# Altium schematic symbol library LDK320ADU120R.Schlib: 1 symbol
Pins are listed as number, name and electrical type; pins without a type are passive.

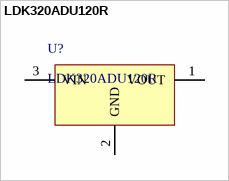
[diagram p0: symbol LDK320ADU120R]

## LDK320ADU120R
designator U?
Linear Voltage Regulator IC Positive Fixed 1 Output 200mA SOT-89
pins: 1 VOUT, 2 GND, 3 VIN